# Altium schematic symbol library Ferrite,470R@100MHz,0402.Schlib: 1 symbol
Pins are listed as number, name and electrical type; pins without a type are passive.

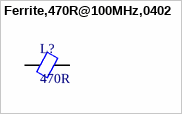
[diagram p0: symbol Ferrite,470R@100MHz,0402]

## Ferrite,470R@100MHz,0402
designator L?, comment 470R
470 Ohms @ 100 MHz 1 Power Line Ferrite Bead 0402 (1005 Metric) 1A 200mOhm
pins: 1, 2